# Altium schematic symbol library nixie_kok.SchLib: 24 symbols
Pins are listed as number, name and electrical type; pins without a type are passive.

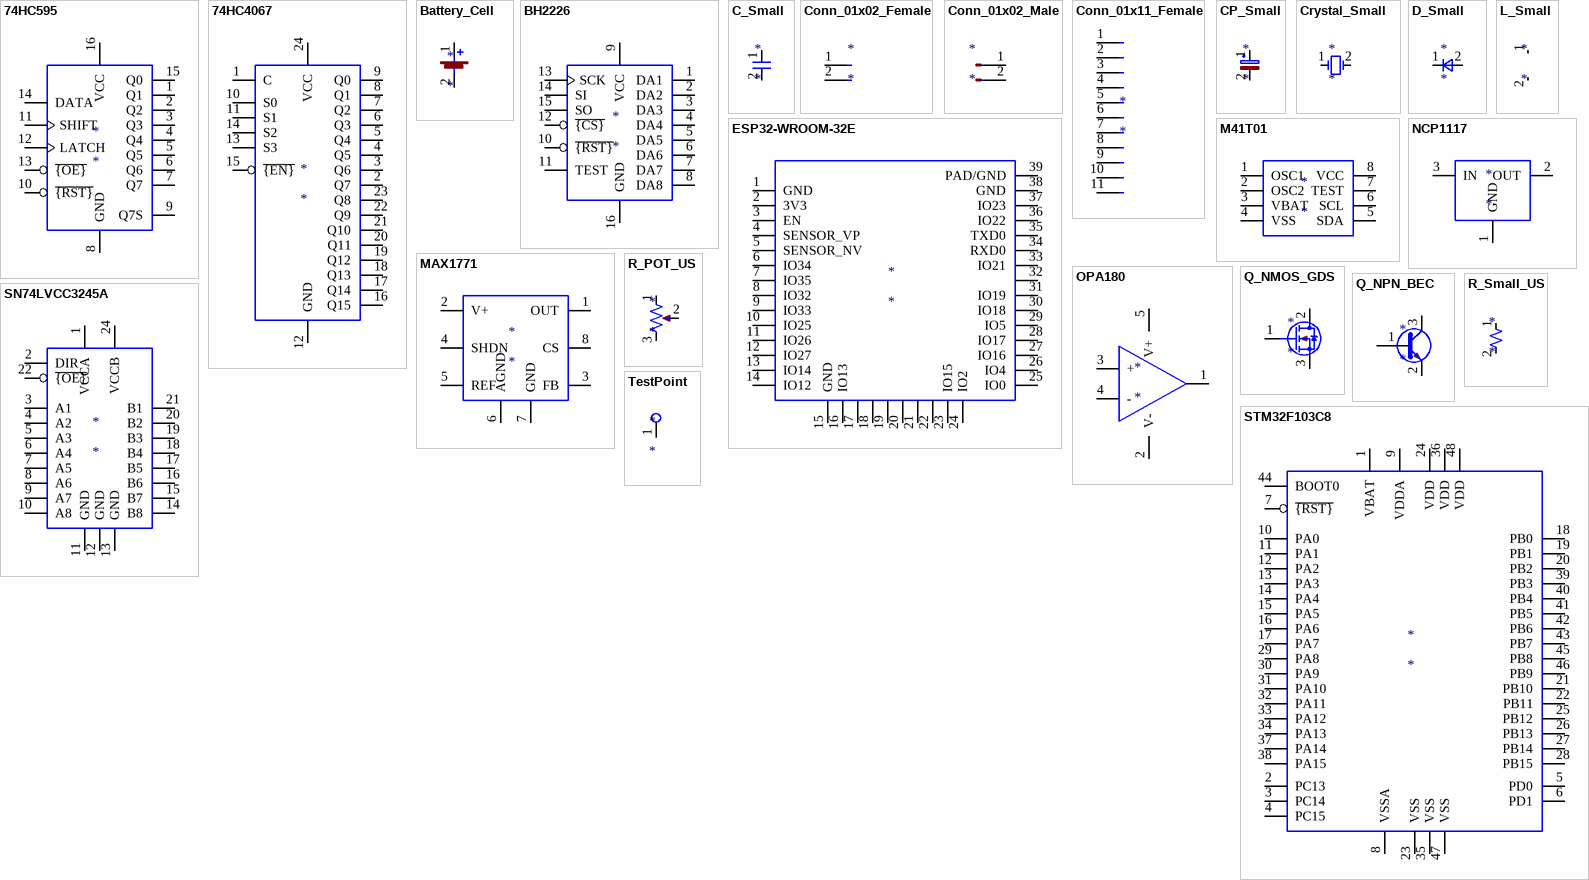
[diagram p0: symbols 74HC595 to TestPoint]

## 74HC595
designator *
pins: 1 Q1, 2 Q2, 3 Q3, 4 Q4, 5 Q5, 6 Q6, 7 Q7, 8 GND, 9 Q7S, 10 ~{{RST}}, 11 SHIFT, 12 LATCH, 13 ~{{OE}}, 14 DATA, 15 Q0, 16 VCC

## 74HC4067
designator *
pins: 1 C, 2 Q7, 3 Q6, 4 Q5, 5 Q4, 6 Q3, 7 Q2, 8 Q1, 9 Q0, 10 S0, 11 S1, 12 GND, 13 S3, 14 S2, 15 ~{{EN}}, 16 Q15, 17 Q14, 18 Q13, 19 Q12, 20 Q11, 21 Q10, 22 Q9, 23 Q8, 24 VCC

## Battery_Cell
designator *
pins: 1 +, 2 -

## BH2226
designator *
pins: 1 DA1, 2 DA2, 3 DA3, 4 DA4, 5 DA5, 6 DA6, 7 DA7, 8 DA8, 9 VCC, 10 ~{{RST}}, 11 TEST, 12 ~{{CS}}, 13 SCK, 14 SI, 15 SO, 16 GND

## C_Small
designator *
pins: 1, 2

## Conn_01x02_Female
designator *
pins: 1 Pin_1, 2 Pin_2

## Conn_01x02_Male
designator *
pins: 1 Pin_1, 2 Pin_2

## Conn_01x11_Female
designator *
pins: 1 Pin_1, 2 Pin_2, 3 Pin_3, 4 Pin_4, 5 Pin_5, 6 Pin_6, 7 Pin_7, 8 Pin_8, 9 Pin_9, 10 Pin_10, 11 Pin_11

## CP_Small
designator *
pins: 1, 2

## Crystal_Small
designator *
pins: 1, 2

## D_Small
designator *
pins: 1 K, 2 A

## ESP32-WROOM-32E
designator *
pins: 1 GND, 2 3V3, 3 EN, 4 SENSOR_VP, 5 SENSOR_NV, 6 IO34, 7 IO35, 8 IO32, 9 IO33, 10 IO25, 11 IO26, 12 IO27, 13 IO14, 14 IO12, 15 GND, 16 IO13, 17, 18, 19, 20, 21, 22, 23 IO15, 24 IO2, 25 IO0, 26 IO4, 27 IO16, 28 IO17, 29 IO5, 30 IO18, 31 IO19, 32, 33 IO21, 34 RXD0, 35 TXD0, 36 IO22, 37 IO23, 38 GND, 39 PAD/GND

## L_Small
designator *
pins: 1, 2

## M41T01
designator *
pins: 1 OSC1, 2 OSC2, 3 VBAT, 4 VSS, 5 SDA, 6 SCL, 7 TEST, 8 VCC

## MAX1771
designator *
pins: 1 OUT, 2 V+, 3 FB, 4 SHDN, 5 REF, 6 AGND, 7 GND, 8 CS

## NCP1117
designator *
pins: 1 GND, 2 OUT, 3 IN

## OPA180
designator *
pins: 1, 2 V-, 3 +, 4 -, 5 V+

## Q_NMOS_GDS
designator *
pins: 1 G, 2 D, 3 S

## Q_NPN_BEC
designator *
pins: 1 B, 2 E, 3 C

## R_POT_US
designator *
pins: 1, 2, 3

## R_Small_US
designator *
pins: 1, 2

## SN74LVCC3245A
designator *
pins: 1 VCCA, 2 DIR, 3 A1, 4 A2, 5 A3, 6 A4, 7 A5, 8 A6, 9 A7, 10 A8, 11 GND, 12 GND, 13 GND, 14 B8, 15 B7, 16 B6, 17 B5, 18 B4, 19 B3, 20 B2, 21 B1, 22 ~{{OE}}, 23 NC hidden, 24 VCCB

## STM32F103C8
designator *
pins: 1 VBAT, 2 PC13, 3 PC14, 4 PC15, 5 PD0, 6 PD1, 7 ~{{RST}}, 8 VSSA, 9 VDDA, 10 PA0, 11 PA1, 12 PA2, 13 PA3, 14 PA4, 15 PA5, 16 PA6, 17 PA7, 18 PB0, 19 PB1, 20 PB2, 21 PB10, 22 PB11, 23 VSS, 24 VDD, 25 PB12, 26 PB13, 27 PB14, 28 PB15, 29 PA8, 30 PA9, 31 PA10, 32 PA11, 33 PA12, 34 PA13, 35 VSS, 36 VDD, 37 PA14, 38 PA15, 39 PB3, 40 PB4, 41 PB5, 42 PB6, 43 PB7, 44 BOOT0, 45 PB8, 46 PB9, 47 VSS, 48 VDD

## TestPoint
designator *
pins: 1